# Altium integrated library Motorola Peripheral HD Data Sep Sync.IntLib: 1 symbol
Pins are listed as number, name and electrical type; pins without a type are passive.

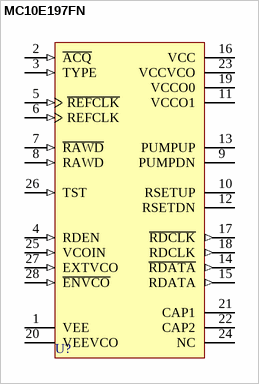
[diagram p0: symbol MC10E197FN]

## MC10E197FN
designator U?
Data Separator; Published: 17-Jul-2002; LatestRevisionDate: 13-Apr-2006; LatestRevisionNote: IPC-7351 Footprint Added.; DatasheetVersion: 1990; PackageReference: 776-02; Publisher: Altium Limited; PackageDescription: 28-Pin Leaded Chip Carrier 1.27 mm Pitch
footprint 776-02_N (Leaded Chip Carrier, 28-Leads, Body 11.5x11.5mm, Pitch 1.27mm, IPC Medium Density)
footprint 776-02_L (Leaded Chip Carrier, 28-Leads, Body 11.5x11.5mm, Pitch 1.27mm, IPC High Density)
footprint 776-02_M (Leaded Chip Carrier, 28-Leads, Body 11.5x11.5mm, Pitch 1.27mm, IPC Low Density)
3D model MC10E197-776-02 (28-Pin Leaded Chip Carrier 1.27 mm Pitch)
pins: 1 VEE (power), 2 ~{ACQ} (in), 3 TYPE (in), 4 RDEN (in), 5 ~{REFCLK} (in), 6 REFCLK (in), 7 ~{RAWD} (in), 8 RAWD (in), 9 PUMPDN (oc), 10 RSETUP, 11 VCCO1 (power), 12 RSETDN, 13 PUMPUP (oc), 14 ~{RDATA} (out), 15 RDATA (out), 16 VCC (power), 17 ~{RDCLK} (out), 18 RDCLK (out), 19 VCCO0 (power), 20 VEEVCO (power), 21 CAP1, 22 CAP2, 23 VCCVCO (power), 24 NC, 25 VCOIN (in), 26 TST (in), 27 EXTVCO (in), 28 ~{ENVCO} (in)